# Altium footprint library SIP24_2_2mm.PcbLib: 1 footprints
Each footprint in its own frame and in the unit in brackets; x right, y up, seen from the top. Pads: shape width x height; smd on the part's side, far side on the other; paste and mask are expansions set on the pad; w line width, h text height; cw(c..) or ccw(c..) is an arc to the next point about the centre after c.
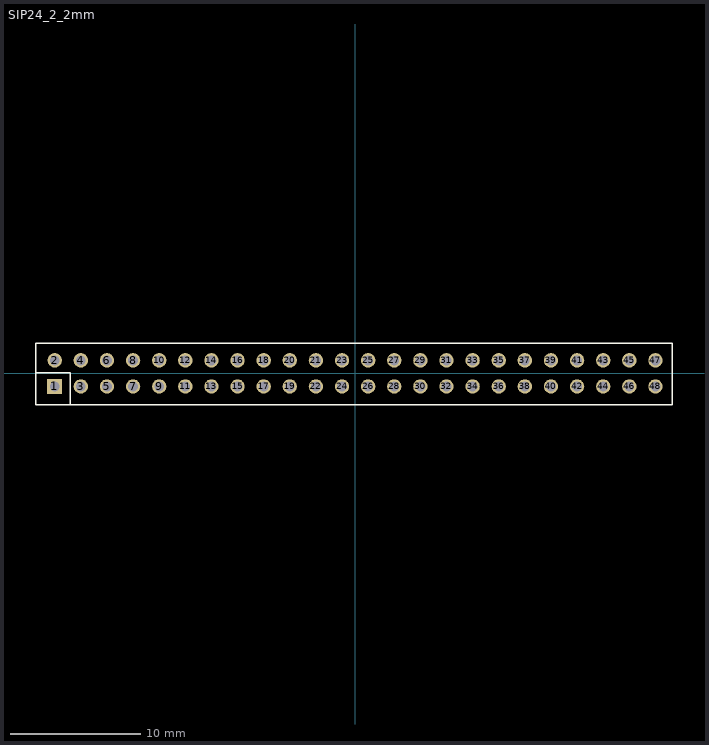
[diagram p0: the footprint, top view; thin cyan lines are the x and y axes]

## SIP24_2_2mm [mm]
pads (48):
  rect 1.15x1.15 hole 0.75: 1(-23,-1)
  round 1.1 hole 0.75: 2(-23,1) 3(-21,-1) 4(-21,1) 5(-19,-1) 6(-19,1) 7(-17,-1) 8(-17,1) 9(-15,-1) 10(-15,1) 11(-13,-1) 12(-13,1) 13(-11,-1) 14(-11,1) 15(-9,-1) 16(-9,1) 17(-7,-1) 18(-7,1) 19(-5,-1) 20(-5,1) 21(-3,1) 22(-3,-1) 23(-1,1) 24(-1,-1) 25(1,1) 26(1,-1) 27(3,1) 28(3,-1) 29(5,1) 30(5,-1) 31(7,1) 32(7,-1) 33(9,1) 34(9,-1) 35(11,1) 36(11,-1) 37(13,1) 38(13,-1) 39(15,1) 40(15,-1) 41(17,1) 42(17,-1) 43(19,1) 44(19,-1) 45(21,1) 46(21,-1) 47(23,1) 48(23,-1)
Top Overlay:
  lines w0.127: -24.448,0.041 -21.818,0.041 -21.818,-2.397 ; -24.448,-2.397 24.282,-2.397 24.282,2.308 -24.448,2.308 -24.448,-2.397
3D body "877584816.stp": height 5.5, standoff -2.6, extent -23.95,-2 23.95,2